# EAGLE library part UPRA-BUS-2.0 (library UPRA_BaseBoards)
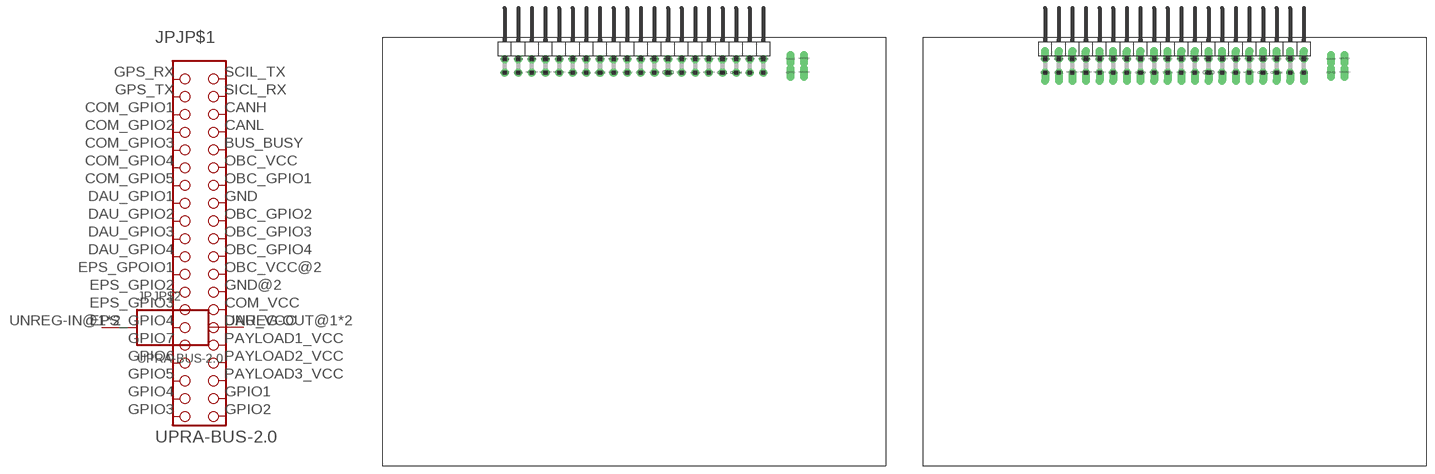
[diagram p1: symbol with the pads of UPRA-2.0-BASE; footprints UPRA-2.0-BASE, UPRA-2.0-BASE_HANDMADE]

Designator prefix JP; gates JP$1=UPRA-BUS-2X20 JP$2=UNREG_BUS

## UPRA-BUS-2.0-BASE  [UPRA-2.0-BASE]
BUS_BUSY  JP$1:P$10  pas
CANH  JP$1:P$6  pas
CANL  JP$1:P$8  pas
COM_GPIO1  JP$1:P$5  pas
COM_GPIO2  JP$1:P$7  pas
COM_GPIO3  JP$1:P$9  pas
COM_GPIO4  JP$1:P$11  pas
COM_GPIO5  JP$1:P$13  pas
COM_VCC  JP$1:P$28  pas
DAU_GPIO1  JP$1:P$15  pas
DAU_GPIO2  JP$1:P$17  pas
DAU_GPIO3  JP$1:P$19  pas
DAU_GPIO4  JP$1:P$21  pas
DAU_VCC  JP$1:P$30  pas
EPS_GPIO2  JP$1:P$25  pas
EPS_GPIO3  JP$1:P$27  pas
EPS_GPIO4  JP$1:P$29  pas
EPS_GPOIO1  JP$1:P$23  pas
GND  JP$1:P$16  pas
GND@2  JP$1:P$26  pas
GPIO1  JP$1:P$38  pas
GPIO2  JP$1:P$40  pas
GPIO3  JP$1:P$39  pas
GPIO4  JP$1:P$37  pas
GPIO5  JP$1:P$35  pas
GPIO6  JP$1:P$33  pas
GPIO7  JP$1:P$31  pas
GPS_RX  JP$1:P$1  pas
GPS_TX  JP$1:P$3  pas
OBC_GPIO1  JP$1:P$14  pas
OBC_GPIO2  JP$1:P$18  pas
OBC_GPIO3  JP$1:P$20  pas
OBC_GPIO4  JP$1:P$22  pas
OBC_VCC  JP$1:P$12  pas
OBC_VCC@2  JP$1:P$24  pas
PAYLOAD1_VCC  JP$1:P$32  pas
PAYLOAD2_VCC  JP$1:P$34  pas
PAYLOAD3_VCC  JP$1:P$36  pas
SCIL_TX  JP$1:P$2  pas
SICL_RX  JP$1:P$4  pas
UNREG-IN@1  JP$2:P$1
UNREG-IN@2  JP$2:P$1
UNREG-OUT@1  JP$2:P$2
UNREG-OUT@2  JP$2:P$2

## UPRA-BUS-2.0-BASE_HANDMADE  [UPRA-2.0-BASE_HANDMADE]
Pads as for UPRA-2.0-BASE

## UPRA-BUS-2.0-BASE_MOUNTING_HOLES  [UPRA-2.0-BASE_MOUNTING_HOLES]
Pads as for UPRA-2.0-BASE

## Footprint UPRA-2.0-BASE (pad centres in mm)
drill 1.016: BUS_BUSY 13.97,-1.27; CANH 19.05,-1.27; CANL 16.51,-1.27; COM_GPIO1 19.05,1.27; COM_GPIO2 16.51,1.27; COM_GPIO3 13.97,1.27; COM_GPIO4 11.43,1.27; COM_GPIO5 8.89,1.27; COM_VCC -8.89,-1.27; DAU_GPIO1 6.35,1.27; DAU_GPIO2 3.81,1.27; DAU_GPIO3 1.27,1.27; DAU_GPIO4 -1.27,1.27; DAU_VCC -11.43,-1.27; EPS_GPIO2 -6.35,1.27; EPS_GPIO3 -8.89,1.27; EPS_GPIO4 -11.43,1.27; EPS_GPOIO1 -3.81,1.27; GND 6.35,-1.27; GND@2 -6.35,-1.27; GPIO1 -21.59,-1.27; GPIO2 -24.13,-1.27; GPIO3 -24.13,1.27; GPIO4 -21.59,1.27; GPIO5 -19.05,1.27; GPIO6 -16.51,1.27; GPIO7 -13.97,1.27; GPS_RX 24.13,1.27; GPS_TX 21.59,1.27; OBC_GPIO1 8.89,-1.27; OBC_GPIO2 3.81,-1.27; OBC_GPIO3 1.27,-1.27; OBC_GPIO4 -1.27,-1.27; OBC_VCC 11.43,-1.27; OBC_VCC@2 -3.81,-1.27; PAYLOAD1_VCC -13.97,-1.27; PAYLOAD2_VCC -16.51,-1.27; PAYLOAD3_VCC -19.05,-1.27; SCIL_TX 24.13,-1.27; SICL_RX 21.59,-1.27
drill 1 long: UNREG-IN@1 29.21,1.27; UNREG-IN@2 29.21,-1.27; UNREG-OUT@1 31.75,1.27; UNREG-OUT@2 31.75,-1.27

## Footprint UPRA-2.0-BASE_HANDMADE (pad centres in mm)
drill 1.016 offset: BUS_BUSY 13.97,-1.27; CANH 19.05,-1.27; CANL 16.51,-1.27; COM_GPIO1 19.05,1.27; COM_GPIO2 16.51,1.27; COM_GPIO3 13.97,1.27; COM_GPIO4 11.43,1.27; COM_GPIO5 8.89,1.27; COM_VCC -8.89,-1.27; DAU_GPIO1 6.35,1.27; DAU_GPIO2 3.81,1.27; DAU_GPIO3 1.27,1.27; DAU_GPIO4 -1.27,1.27; DAU_VCC -11.43,-1.27; EPS_GPIO2 -6.35,1.27; EPS_GPIO3 -8.89,1.27; EPS_GPIO4 -11.43,1.27; EPS_GPOIO1 -3.81,1.27; GND 6.35,-1.27; GND@2 -6.35,-1.27; GPIO1 -21.59,-1.27; GPIO2 -24.13,-1.27; GPIO3 -24.13,1.27; GPIO4 -21.59,1.27; GPIO5 -19.05,1.27; GPIO6 -16.51,1.27; GPIO7 -13.97,1.27; GPS_RX 24.13,1.27; GPS_TX 21.59,1.27; OBC_GPIO1 8.89,-1.27; OBC_GPIO2 3.81,-1.27; OBC_GPIO3 1.27,-1.27; OBC_GPIO4 -1.27,-1.27; OBC_VCC 11.43,-1.27; OBC_VCC@2 -3.81,-1.27; PAYLOAD1_VCC -13.97,-1.27; PAYLOAD2_VCC -16.51,-1.27; PAYLOAD3_VCC -19.05,-1.27; SCIL_TX 24.13,-1.27; SICL_RX 21.59,-1.27
drill 1 long: UNREG-IN@1 29.21,1.27; UNREG-IN@2 29.21,-1.27; UNREG-OUT@1 31.75,1.27; UNREG-OUT@2 31.75,-1.27

## Footprint UPRA-2.0-BASE_MOUNTING_HOLES (pad centres in mm)
drill 1.016: BUS_BUSY 13.97,-1.27; CANH 19.05,-1.27; CANL 16.51,-1.27; COM_GPIO1 19.05,1.27; COM_GPIO2 16.51,1.27; COM_GPIO3 13.97,1.27; COM_GPIO4 11.43,1.27; COM_GPIO5 8.89,1.27; COM_VCC -8.89,-1.27; DAU_GPIO1 6.35,1.27; DAU_GPIO2 3.81,1.27; DAU_GPIO3 1.27,1.27; DAU_GPIO4 -1.27,1.27; DAU_VCC -11.43,-1.27; EPS_GPIO2 -6.35,1.27; EPS_GPIO3 -8.89,1.27; EPS_GPIO4 -11.43,1.27; EPS_GPOIO1 -3.81,1.27; GND 6.35,-1.27; GND@2 -6.35,-1.27; GPIO1 -21.59,-1.27; GPIO2 -24.13,-1.27; GPIO3 -24.13,1.27; GPIO4 -21.59,1.27; GPIO5 -19.05,1.27; GPIO6 -16.51,1.27; GPIO7 -13.97,1.27; GPS_RX 24.13,1.27; GPS_TX 21.59,1.27; OBC_GPIO1 8.89,-1.27; OBC_GPIO2 3.81,-1.27; OBC_GPIO3 1.27,-1.27; OBC_GPIO4 -1.27,-1.27; OBC_VCC 11.43,-1.27; OBC_VCC@2 -3.81,-1.27; PAYLOAD1_VCC -13.97,-1.27; PAYLOAD2_VCC -16.51,-1.27; PAYLOAD3_VCC -19.05,-1.27; SCIL_TX 24.13,-1.27; SICL_RX 21.59,-1.27
drill 1 long: UNREG-IN@1 29.21,1.27; UNREG-IN@2 29.21,-1.27; UNREG-OUT@1 31.75,1.27; UNREG-OUT@2 31.75,-1.27
hole 3.2 at 40,-69.38
hole 3.2 at -40,-69.38
hole 3.2 at 40,0
hole 3.2 at -40,0